# EAGLE library part ALLEGRO-A6282 (library Lectrobox)
Allegro A6282 16-output LED Driver, TSSOP-24
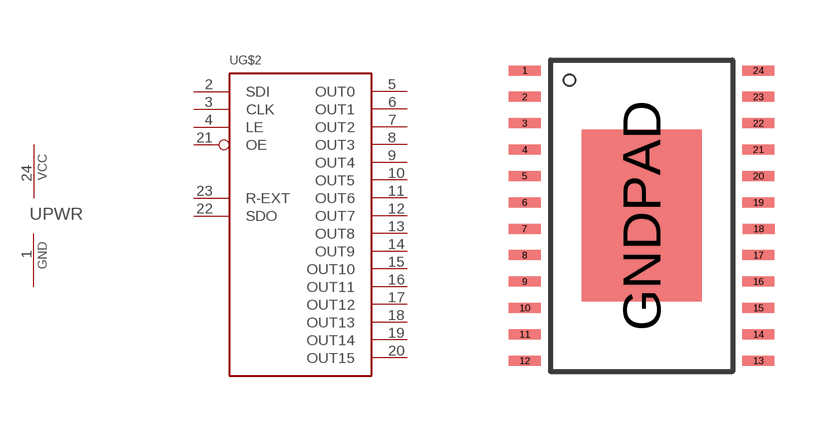
[diagram p2: symbol with the pads of TSSOP24-GROUNDPAD; footprint TSSOP24-GROUNDPAD]

Designator prefix -; gates PWR=PWRN G$2=ALLEGRO-A6282

## ALLEGRO-A6282  [TSSOP24-GROUNDPAD]
1  PWR:GND  pwr
2  G$2:SDI  in
3  G$2:CLK  in
4  G$2:LE  in
5  G$2:OUT0  in
6  G$2:OUT1  in
7  G$2:OUT2  in
8  G$2:OUT3  in
9  G$2:OUT4  in
10  G$2:OUT5  in
11  G$2:OUT6  in
12  G$2:OUT7  in
13  G$2:OUT8  in
14  G$2:OUT9  in
15  G$2:OUT10  in
16  G$2:OUT11  in
17  G$2:OUT12  in
18  G$2:OUT13  in
19  G$2:OUT14  in
20  G$2:OUT15  in
21  G$2:OE  in
22  G$2:SDO  out
23  G$2:R-EXT  out
24  PWR:VCC  pwr

## Footprint TSSOP24-GROUNDPAD (pad centres in mm)
smd 0.8 x 0.25: 1 -2.921,3.637; 2 -2.921,2.977; 3 -2.921,2.317; 4 -2.921,1.656; 5 -2.921,0.996; 6 -2.921,0.335; 7 -2.927,-0.325; 8 -2.921,-0.985; 9 -2.921,-1.646; 10 -2.921,-2.306; 11 -2.921,-2.967; 12 -2.921,-3.627; 13 2.921,-3.627; 14 2.921,-2.967; 15 2.921,-2.306; 16 2.921,-1.646; 17 2.921,-0.985; 18 2.927,-0.325; 19 2.921,0.335; 20 2.921,0.996; 21 2.921,1.656; 22 2.921,2.317; 23 2.921,2.977; 24 2.921,3.637
smd 3 x 4.3: GNDPAD 0,0.005